# Altium integrated library WS-ROTU_rev15a.intlib: 18 symbols
Pins are listed as number, name and electrical type; pins without a type are passive.

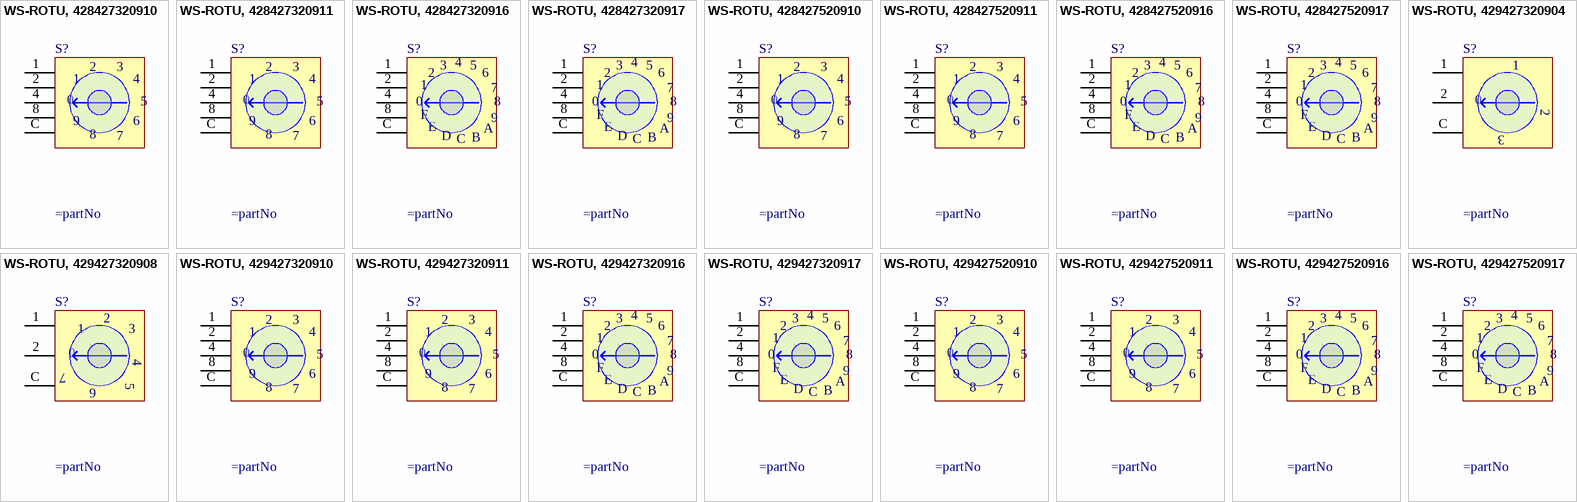
[diagram p0: symbols WS-ROTU, 428427320910 to WS-ROTU, 429427520917]

## WS-ROTU, 428427320910
designator S?
WS-ROTU 10x10 mm washable THT right angled arrow type Pitch 2.54 mm; Manufacturer: Wurth Elektronik; Part No.: 428427320910; ComponentLink1 Description: Manufacturer; ComponentLink2 Description: Datasheet; Created Date: Dec.2015; ComponentLink1URL: http://www.we-online.com; ComponentLink2URL: http://katalog.we-online.de/em/datasheet/428427320910.pdf; Created by: Baojun Chen
footprint 42842732091x_10 pos (10x10 mm washable THT right angled, Arrow Type, 2.54 mm Pitch, WS-ROTU)
pins: 1, 2, 4, 8, C
text: 3; 0; 5; 9; 6; 7

## WS-ROTU, 428427320911
designator S?
WS-ROTU 10x10 mm washable THT right angled arrow type Pitch 2.54 mm; Manufacturer: Wurth Elektronik; Part No.: 428427320911; ComponentLink1 Description: Manufacturer; ComponentLink2 Description: Datasheet; Created Date: Dec.2015; ComponentLink1URL: http://www.we-online.com; ComponentLink2URL: http://katalog.we-online.de/em/datasheet/428427320911.pdf; Created by: Baojun Chen
footprint 42842732091x_10 pos (10x10 mm washable THT right angled, Arrow Type, 2.54 mm Pitch, WS-ROTU)
pins: 1, 2, 4, 8, C
text: 3; 0; 5; 9; 6; 7

## WS-ROTU, 428427320916
designator S?
WS-ROTU 10x10 mm washable THT right angled arrow type Pitch 2.54 mm; Manufacturer: Wurth Elektronik; Part No.: 428427320916; ComponentLink1 Description: Manufacturer; ComponentLink2 Description: Datasheet; Created Date: Dec.2015; ComponentLink1URL: http://www.we-online.com; ComponentLink2URL: http://katalog.we-online.de/em/datasheet/428427320916.pdf; Created by: Baojun Chen
footprint 42842732091x_16 pos (10x10 mm washable THT right angled, Arrow Type, 2.54 mm Pitch, WS-ROTU)
pins: 1, 2, 4, 8, C
text: 3; 5; 6; 7; 0; F; 9; E; A; D; B

## WS-ROTU, 428427320917
designator S?
WS-ROTU 10x10 mm washable THT right angled arrow type Pitch 2.54 mm; Manufacturer: Wurth Elektronik; Part No.: 428427320917; ComponentLink1 Description: Manufacturer; ComponentLink2 Description: Datasheet; Created Date: Dec.2015; ComponentLink1URL: http://www.we-online.com; ComponentLink2URL: http://katalog.we-online.de/em/datasheet/428427320917.pdf; Created by: Baojun Chen
footprint 42842732091x_16 pos (10x10 mm washable THT right angled, Arrow Type, 2.54 mm Pitch, WS-ROTU)
pins: 1, 2, 4, 8, C
text: 3; 5; 6; 7; 0; F; 9; E; A; D; B

## WS-ROTU, 428427520910
designator S?
WS-ROTU 10x10 mm washable THT right angled cross type Pitch 2.54; Manufacturer: Wurth Elektronik; Part No.: 428427520910; ComponentLink1 Description: Manufacturer; ComponentLink2 Description: Datasheet; Created Date: Dec.2015; ComponentLink1URL: http://www.we-online.com; ComponentLink2URL: http://katalog.we-online.de/em/datasheet/428427520910.pdf; Created by: Baojun Chen
footprint 42842752091x_10 pos (10 position, 2,54mm Pitch, Right Angled type, THT, Round Cross type, dark grey actuator,real code, Tube)
pins: 1, 2, 4, 8, C
text: 3; 0; 5; 9; 6; 7

## WS-ROTU, 428427520911
designator S?
WS-ROTU 10x10 mm washable THT right angled cross type Pitch 2.54; Manufacturer: Wurth Elektronik; Part No.: 428427520911; ComponentLink1 Description: Manufacturer; ComponentLink2 Description: Datasheet; Created Date: Dec.2015; ComponentLink1URL: http://www.we-online.com; ComponentLink2URL: http://katalog.we-online.de/em/datasheet/428427520911.pdf; Created by: Baojun Chen
footprint 42842752091x_10 pos (10 position, 2,54mm Pitch, Right Angled type, THT, Round Cross type, dark grey actuator,real code, Tube)
pins: 1, 2, 4, 8, C
text: 3; 0; 5; 9; 6; 7

## WS-ROTU, 428427520916
designator S?
WS-ROTU 10x10 mm washable THT right angled cross type Pitch 2.54; Manufacturer: Wurth Elektronik; Part No.: 428427520916; ComponentLink1 Description: Manufacturer; ComponentLink2 Description: Datasheet; Created Date: Dec.2015; ComponentLink1URL: http://www.we-online.com; ComponentLink2URL: http://katalog.we-online.de/em/datasheet/428427520916.pdf; Created by: Baojun Chen
footprint 42842752091x_16 pos (16 position, 2,54mm Pitch, Right Angled type, THT, Round Cross type, dark grey actuator,real code, Tube)
pins: 1, 2, 4, 8, C
text: 3; 5; 6; 7; 0; F; 9; E; A; D; B

## WS-ROTU, 428427520917
designator S?
WS-ROTU 10x10 mm washable THT right angled cross type Pitch 2.54; Manufacturer: Wurth Elektronik; Part No.: 428427520917; ComponentLink1 Description: Manufacturer; ComponentLink2 Description: Datasheet; Created Date: Dec.2015; ComponentLink1URL: http://www.we-online.com; ComponentLink2URL: http://katalog.we-online.de/em/datasheet/428427520917.pdf; Created by: Baojun Chen
footprint 42842752091x_16 pos (16 position, 2,54mm Pitch, Right Angled type, THT, Round Cross type, dark grey actuator,real code, Tube)
pins: 1, 2, 4, 8, C
text: 3; 5; 6; 7; 0; F; 9; E; A; D; B

## WS-ROTU, 429427320904
designator S?
WS-ROTU 10x10 mm washable THT right angled arrow type Pitch 5.08 mm; Manufacturer: Wurth Elektronik; Part No.: 429427320904; ComponentLink1 Description: Manufacturer; ComponentLink2 Description: Datasheet; Created Date: Dec.2015; ComponentLink1URL: http://www.we-online.com; ComponentLink2URL: http://katalog.we-online.de/em/datasheet/429427320904.pdf; Created by: Baojun Chen
footprint 42942732091x_4 pos (10 position, 5,08mm Pitch, Right Angled type, THT, Round Arrow type, dark grey actuator, real code, Tube)
pins: 1, 2, C
text: 0; 3

## WS-ROTU, 429427320908
designator S?
WS-ROTU 10x10 mm washable THT right angled arrow type Pitch 5.08 mm; Manufacturer: Wurth Elektronik; Part No.: 429427320908; ComponentLink1 Description: Manufacturer; ComponentLink2 Description: Datasheet; Created Date: Dec.2015; ComponentLink1URL: http://www.we-online.com; ComponentLink2URL: http://katalog.we-online.de/em/datasheet/429427320908.pdf; Created by: Baojun Chen
footprint 42942732091x_8 pos (10 position, 5,08mm Pitch, Right Angled type, THT, Round Arrow type, dark grey actuator, real code, Tube)
pins: 1, 2, C
text: 3; 4; 0; 7; 6; 5

## WS-ROTU, 429427320910
designator S?
WS-ROTU 10x10 mm washable THT right angled arrow type Pitch 5.08 mm; Manufacturer: Wurth Elektronik; Part No.: 429427320910; ComponentLink1 Description: Manufacturer; ComponentLink2 Description: Datasheet; Created Date: Dec.2015; ComponentLink1URL: http://www.we-online.com; ComponentLink2URL: http://katalog.we-online.de/em/datasheet/429427320910.pdf; Created by: Baojun Chen
footprint 42942732091x_10 pos (10 position, 5,08mm Pitch, Right Angled type, THT, Round Arrow type, dark grey actuator, real code, Tube)
pins: 1, 2, 4, 8, C
text: 3; 0; 5; 9; 6; 7

## WS-ROTU, 429427320911
designator S?
WS-ROTU 10x10 mm washable THT right angled arrow type Pitch 5.08 mm; Manufacturer: Wurth Elektronik; Part No.: 429427320911; ComponentLink1 Description: Manufacturer; ComponentLink2 Description: Datasheet; Created Date: Dec.2015; ComponentLink1URL: http://www.we-online.com; ComponentLink2URL: http://katalog.we-online.de/em/datasheet/429427320911.pdf; Created by: Baojun Chen
footprint 42942732091x_10 pos (10 position, 5,08mm Pitch, Right Angled type, THT, Round Arrow type, dark grey actuator, real code, Tube)
pins: 1, 2, 4, 8, C
text: 3; 0; 5; 9; 6; 7

## WS-ROTU, 429427320916
designator S?
WS-ROTU 10x10 mm washable THT right angled arrow type Pitch 5.08 mm; Manufacturer: Wurth Elektronik; Part No.: 429427320916; ComponentLink1 Description: Manufacturer; ComponentLink2 Description: Datasheet; Created Date: Dec.2015; ComponentLink1URL: http://www.we-online.com; ComponentLink2URL: http://katalog.we-online.de/em/datasheet/429427320916.pdf; Created by: Baojun Chen
footprint 42942732091x_16 pos (10 position, 5,08mm Pitch, Right Angled type, THT, Round Arrow type, dark grey actuator, real code, Tube)
pins: 1, 2, 4, 8, C
text: 3; 5; 6; 7; 0; F; 9; E; A; D; B

## WS-ROTU, 429427320917
designator S?
WS-ROTU 10x10 mm washable THT right angled arrow type Pitch 5.08 mm; Manufacturer: Wurth Elektronik; Part No.: 429427320917; ComponentLink1 Description: Manufacturer; ComponentLink2 Description: Datasheet; Created Date: Dec.2015; ComponentLink1URL: http://www.we-online.com; ComponentLink2URL: http://katalog.we-online.de/em/datasheet/429427320917.pdf; Created by: Baojun Chen
footprint 42942732091x_16 pos (10 position, 5,08mm Pitch, Right Angled type, THT, Round Arrow type, dark grey actuator, real code, Tube)
pins: 1, 2, 4, 8, C
text: 3; 5; 6; 7; 0; F; 9; E; A; D; B

## WS-ROTU, 429427520910
designator S?
WS-ROTU 10x10 mm washable THT right angled cross type Pitch 5.08; Manufacturer: Wurth Elektronik; Part No.: 429427520910; ComponentLink1 Description: Manufacturer; ComponentLink2 Description: Datasheet; Created Date: Dec.2015; ComponentLink1URL: http://www.we-online.com; ComponentLink2URL: http://katalog.we-online.de/em/datasheet/429427520910.pdf; Created by: Baojun Chen
footprint 42942752091x_10 pos (10 position, 5,08mm Pitch, Right Angled type, THT, Round Cross type, dark grey actuator, real code, Tube)
pins: 1, 2, 4, 8, C
text: 3; 0; 5; 9; 6; 7

## WS-ROTU, 429427520911
designator S?
WS-ROTU 10x10 mm washable THT right angled cross type Pitch 5.08; Manufacturer: Wurth Elektronik; Part No.: 429427520911; ComponentLink1 Description: Manufacturer; ComponentLink2 Description: Datasheet; Created Date: Dec.2015; ComponentLink1URL: http://www.we-online.com; ComponentLink2URL: http://katalog.we-online.de/em/datasheet/429427520911.pdf; Created by: Baojun Chen
footprint 42942752091x_10 pos (10 position, 5,08mm Pitch, Right Angled type, THT, Round Cross type, dark grey actuator, real code, Tube)
pins: 1, 2, 4, 8, C
text: 3; 0; 5; 9; 6; 7

## WS-ROTU, 429427520916
designator S?
WS-ROTU 10x10 mm washable THT right angled cross type Pitch 5.08; Manufacturer: Wurth Elektronik; Part No.: 429427520916; ComponentLink1 Description: Manufacturer; ComponentLink2 Description: Datasheet; Created Date: Dec.2015; ComponentLink1URL: http://www.we-online.com; ComponentLink2URL: http://katalog.we-online.de/em/datasheet/429427520916.pdf; Created by: Baojun Chen
footprint 42942752091x_16 pos (16 position, 5,08mm Pitch, Right Angled type, THT, Round Cross type, dark grey actuator, real code, Tube)
pins: 1, 2, 4, 8, C
text: 3; 5; 6; 7; 0; F; 9; E; A; D; B

## WS-ROTU, 429427520917
designator S?
WS-ROTU 10x10 mm washable THT right angled cross type Pitch 5.08; Manufacturer: Wurth Elektronik; Part No.: 429427520917; ComponentLink1 Description: Manufacturer; ComponentLink2 Description: Datasheet; Created Date: Dec.2015; ComponentLink1URL: http://www.we-online.com; ComponentLink2URL: http://katalog.we-online.de/em/datasheet/429427520917.pdf; Created by: Baojun Chen
footprint 42942752091x_16 pos (16 position, 5,08mm Pitch, Right Angled type, THT, Round Cross type, dark grey actuator, real code, Tube)
pins: 1, 2, 4, 8, C
text: 3; 5; 6; 7; 0; F; 9; E; A; D; B